# Altium footprint library PCB_Lib.PcbLib: 301 footprints (part 8 of 19)
Each footprint in its own frame and in the unit in brackets; x right, y up, seen from the top. Pads: shape width x height; smd on the part's side, far side on the other; paste and mask are expansions set on the pad; w line width, h text height; cw(c..) or ccw(c..) is an arc to the next point about the centre after c.
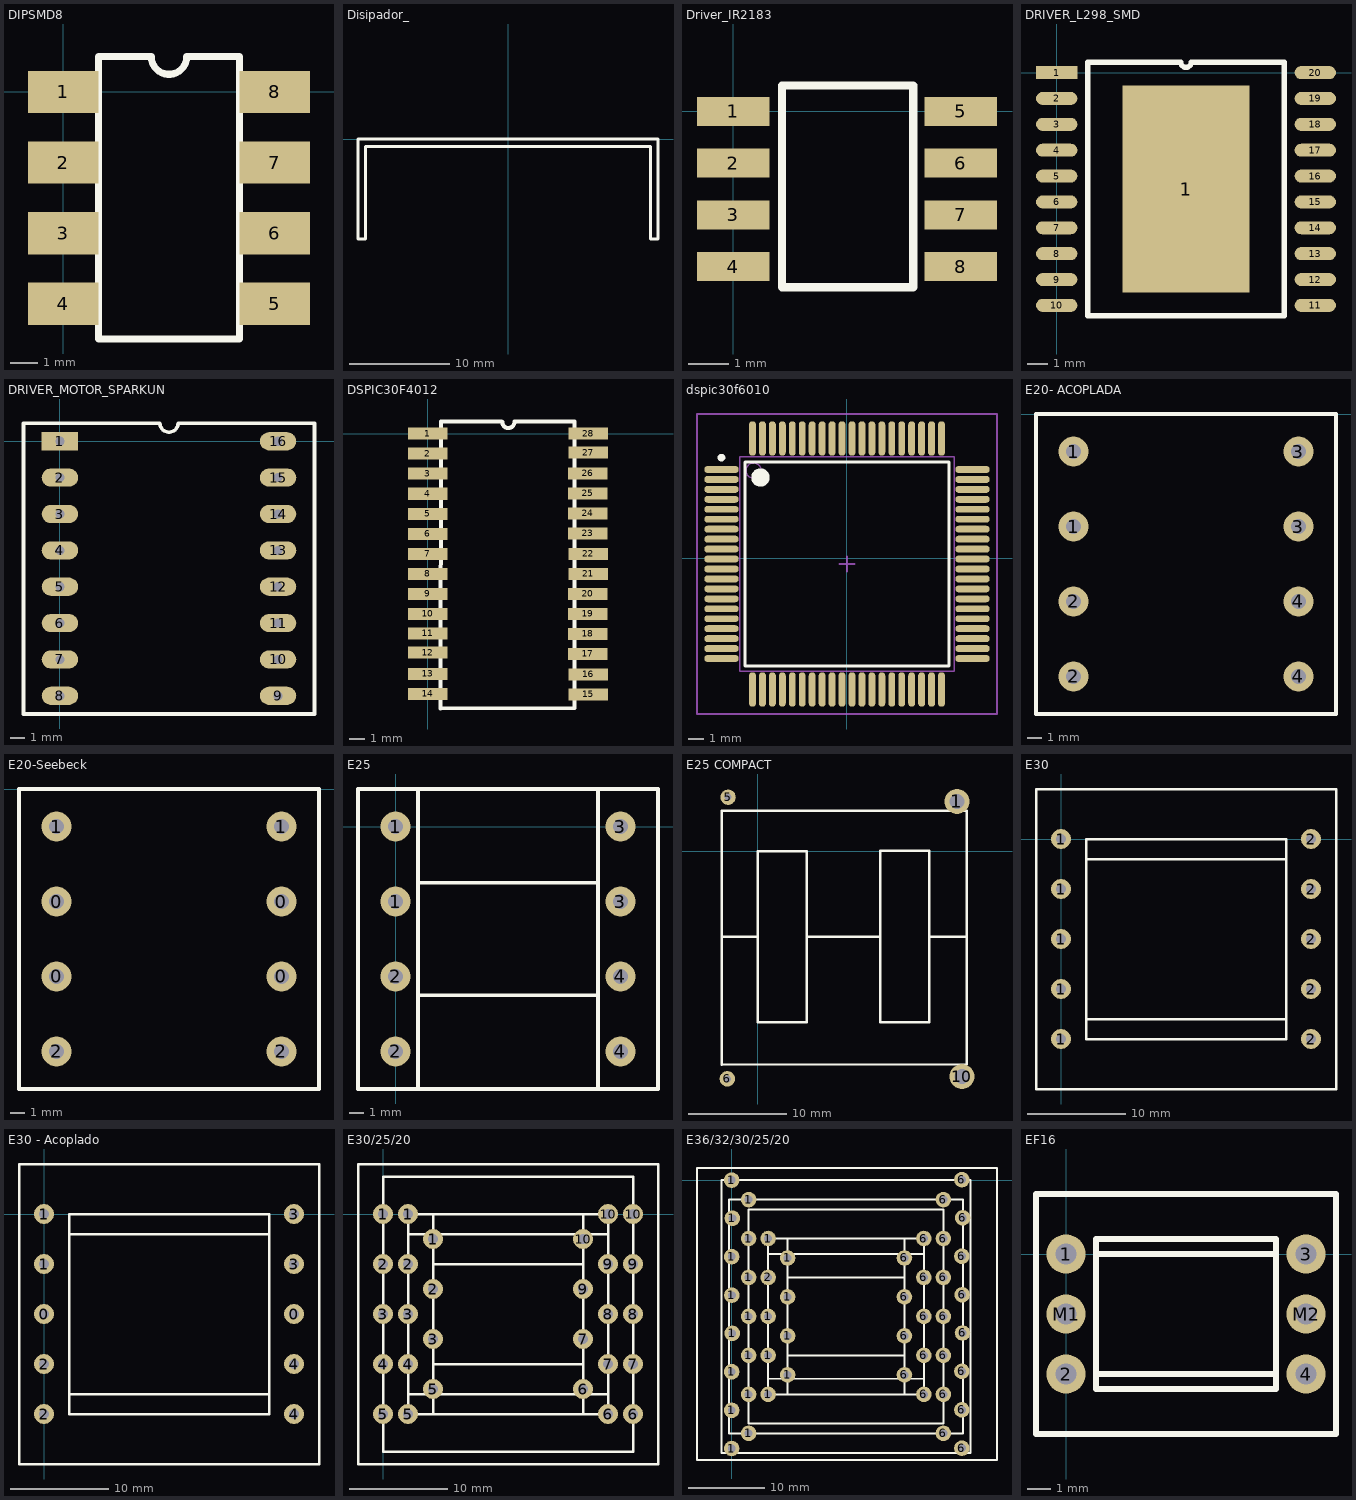
[diagram p7: the footprints below, top view; thin cyan lines are the x and y axes]

## DIPSMD8 [mil]
pads (8):
  rect 100x60 smd: 1(0,0) 2(0,-100) 3(0,-200) 4(0,-300) 5(300,-300) 6(300,-200) 7(300,-100) 8(300,0)
Top Overlay:
  lines w10: 50,-350 250,-350 250,50 175,50 cw(c150,50) 125,50 50,50 50,-350

## Disipador_ [mil]
Top Overlay:
  lines w10: -590.55,-393.7 -561.02,-393.7 -561.02,-354.33 -561.02,-29.53 561.02,-29.53 561.02,-393.7 590.55,-393.7 590.55,0 0,0 -590.55,0 -590.55,-393.7

## Driver_IR2183 [mil]
pads (8):
  rect 70x28 smd: 1(0,0) 2(0,-50) 3(0,-100) 4(0,-150) 5(220,0) 6(220,-50) 7(220,-100) 8(220,-150)
Top Overlay:
  lines w7.87: 47,-170 174,-170 174,25 47,25 47,-170

## DRIVER_L298_SMD [mil]
pads (21):
  rect 80x25 smd: 1(0,0)
  rect 245x400 smd: 1(250,-225)
  oval 80x25 smd: 2(0,-50) 3(0,-100) 4(0,-150) 5(0,-200) 6(0,-250) 7(0,-300) 8(0,-350) 9(0,-400) 10(0,-450) 11(500,-450) 12(500,-400) 13(500,-350) 14(500,-300) 15(500,-250) 16(500,-200) 17(500,-150) 18(500,-100) 19(500,-50) 20(500,0)
Top Overlay:
  lines w10: 60,-470 60,20 240,20 ccw(c250,20) 260,20 440,20 440,-470 60,-470

## DRIVER_MOTOR_SPARKUN [mil]
pads (16):
  rect 100x50 hole 25: 1(0,0)
  oval 100x50 hole 25: 2(0,-100) 3(0,-200) 4(0,-300) 5(0,-400) 6(0,-500) 7(0,-600) 8(0,-700) 9(600,-700) 10(600,-600) 11(600,-500) 12(600,-400) 13(600,-300) 14(600,-200) 15(600,-100) 16(600,0)
Top Overlay:
  lines w10: -100,-750 700,-750 700,50 325,50 cw(c300,50) 275,50 -100,50 -100,-750

## DSPIC30F4012 [mil]
pads (28):
  rect 98.43x30 smd: 1(0,0) 2(0,-50) 3(0,-100) 4(0,-150) 5(0,-200) 6(0,-250) 7(0,-300) 8(0,-350) 9(0,-400) 10(0,-450) 11(0,-499) 12(0,-547) 13(0,-600) 14(0,-650) 15(400,-651) 16(400,-601) 17(399,-550) 18(399,-500) 19(399,-450) 20(399,-400) 21(400,-350) 22(400,-300) 23(399,-249) 24(399,-199) 25(399,-149) 26(399,-99) 27(400,-47) 28(400,0)
Top Overlay:
  lines w10: 184,30 33,30 32,-686 366,-685 366,-479 366,-224 366,30 216,30 ; 186.02,29.79 ccw(c201,29) 216,29

## dspic30f6010 [mm] "pines 100mil longitud"
pads (80):
  oval 2.25x0.45 smd: 1(-8.2,5.794) 2(-8.2,5.144) 3(-8.2,4.494) 4(-8.2,3.844) 5(-8.2,3.194) 6(-8.2,2.544) 7(-8.2,1.894) 8(-8.2,1.244) 9(-8.2,0.594) 10(-8.2,-0.056) 11(-8.2,-0.706) 12(-8.2,-1.356) 13(-8.2,-2.006) 14(-8.2,-2.656) 15(-8.2,-3.306) 16(-8.2,-3.956) 17(-8.2,-4.606) 18(-8.2,-5.256) 19(-8.2,-5.906) 20(-8.2,-6.556) 41(8.2,-6.556) 42(8.2,-5.906) 43(8.2,-5.256) 44(8.2,-4.606) 45(8.2,-3.956) 46(8.2,-3.306) 47(8.2,-2.656) 48(8.2,-2.006) 49(8.2,-1.356) 50(8.2,-0.706) 51(8.2,-0.056) 52(8.2,0.594) 53(8.2,1.244) 54(8.2,1.894) 55(8.2,2.544) 56(8.2,3.194) 57(8.2,3.844) 58(8.2,4.494) 59(8.2,5.144) 60(8.2,5.794)
  oval 0.45x2.25 smd: 21(-6.175,-8.581) 22(-5.525,-8.581) 23(-4.875,-8.581) 24(-4.225,-8.581) 25(-3.575,-8.581) 26(-2.925,-8.581) 27(-2.275,-8.581) 28(-1.625,-8.581) 29(-0.975,-8.581) 30(-0.325,-8.581) 31(0.325,-8.581) 32(0.975,-8.581) 33(1.625,-8.581) 34(2.275,-8.581) 35(2.925,-8.581) 36(3.575,-8.581) 37(4.225,-8.581) 38(4.875,-8.581) 39(5.525,-8.581) 40(6.175,-8.581) 61(6.175,7.819) 62(5.525,7.819) 63(4.875,7.819) 64(4.225,7.819) 65(3.575,7.819) 66(2.925,7.819) 67(2.275,7.819) 68(1.625,7.819) 69(0.975,7.819) 70(0.325,7.819) 71(-0.325,7.819) 72(-0.975,7.819) 73(-1.625,7.819) 74(-2.275,7.819) 75(-2.925,7.819) 76(-3.575,7.819) 77(-4.225,7.819) 78(-4.875,7.819) 79(-5.525,7.819) 80(-6.175,7.819)
Top Overlay:
  circle w0.25: c-8.2,6.569 r0.125
  circle w0.6: c-5.65,5.269 r0.3
  lines w0.2: -6.65,-7.031 -6.65,6.269 6.65,6.269 6.65,-7.031 -6.65,-7.031
Mechanical 13:
  circle w0.1: c-6.1,5.719 r0.5
  lines w0.1: -7,-7.381 -7,6.619 7,6.619 7,-7.381 -7,-7.381
Mechanical 15:
  lines w0.1: -0.5,-0.381 0.5,-0.381 ; 0,-0.881 0,0.119 ; -9.8,-10.181 -9.8,9.419 9.8,9.419 9.8,-10.181 -9.8,-10.181
3D body: height 2.45, standoff 0, extent -7,-7.381 7,6.619

## E20- ACOPLADA [mil]
pads (8):
  round 80 hole 40: 1(200,-300) 1(200,-100) 2(200,-700) 2(200,-500) 3(800,-300) 3(800,-100) 4(800,-700) 4(800,-500)
Top Overlay:
  lines w10: 200,-800 800,-800 ; 200,0 800,0 ; 100,-800 900,-800 900,0 100,0 100,-800

## E20-Seebeck [mil]
pads (8):
  round 80 hole 40: 0(200,-500) 0(200,-300) 0(800,-500) 0(800,-300) 1(200,-100) 1(800,-100) 2(200,-700) 2(800,-700)
Top Overlay:
  lines w10: 200,-800 800,-800 ; 200,0 800,0 ; 100,-800 100,0 900,0 900,-800 100,-800

## E25 [mil]
pads (8):
  round 80 hole 40: 1(0,-200) 1(0,0) 2(0,-600) 2(0,-400) 3(600,-200) 3(600,0) 4(600,-600) 4(600,-400)
Top Overlay:
  lines w10: 60,-700 60,100 ; 60,-450 540,-450 ; 60,-150 540,-150 ; 540,-700 540,100 ; -100,-700 700,-700 700,100 -100,100 -100,-700

## E25 COMPACT [mil]
pads (4):
  round 100 hole 60: 1(800,200) 10(820,-906)
  round 62 hole 28: 5(-120,217) 6(-123,-915)
Top Overlay:
  lines w10: -145,-343 -145,162 840,162 840,-343 ; -145,-343 0,-343 ; -145,-343 -145,-858 840,-857 840,-343 ; 0,-343 0,0 197,0 197,-344 ; 0,-343 0,-687 197,-687 197,-344 ; 197,-344 492,-344 ; 492,-344 492,1 689,1 689,-343 ; 492,-344 492,-688 689,-688 689,-343 ; 689,-343 840,-343

## E30 [mil]
pads (10):
  round 80 hole 40: 1(0,-800) 1(0,-600) 1(0,-400) 1(0,-200) 1(0,0) 2(1000,-800) 2(1000,-600) 2(1000,-400) 2(1000,-200) 2(1000,0)
Top Overlay:
  lines w10: 100,-720 900,-720 ; 100,-80 900,-80 ; -100,-1000 1100,-1000 1100,200 -100,200 -100,-1000 ; 100,-800 900,-800 900,0 100,0 100,-800

## E30 - Acoplado [mil]
pads (10):
  round 80 hole 40: 0(0,-400) 0(1000,-400) 1(0,-200) 1(0,0) 2(0,-800) 2(0,-600) 3(1000,-200) 3(1000,0) 4(1000,-800) 4(1000,-600)
Top Overlay:
  lines w10: 100,-720 900,-720 ; 100,-80 900,-80 ; -100,-1000 1100,-1000 1100,200 -100,200 -100,-1000 ; 100,-800 900,-800 900,0 100,0 100,-800

## E30/25/20 [mil]
pads (28):
  round 80 hole 40: 1(0,0) 1(100,0) 1(200,-100) 2(0,-200) 2(100,-200) 2(200,-300) 3(0,-400) 3(100,-400) 3(200,-500) 4(0,-600) 4(100,-600) 5(0,-800) 5(100,-800) 5(200,-700) 6(800,-700) 6(900,-800) 6(1000,-800) 7(800,-500) 7(900,-600) 7(1000,-600) 8(900,-400) 8(1000,-400) 9(800,-300) 9(900,-200) 9(1000,-200) 10(800,-100) 10(900,0) 10(1000,0)
Top Overlay:
  lines w10: 100,-720 900,-720 ; 100,-80 900,-80 ; 200,-600 800,-600 ; 200,-200 800,-200 ; -100,-1000 1100,-1000 1100,200 -100,200 -100,-1000 ; 0,-950 1000,-950 1000,150 0,150 0,-950 ; 100,-800 900,-800 900,0 100,0 100,-800 ; 200,-800 200,0 800,0 800,-800 200,-800

## E36/32/30/25/20 [mil]
pads (48):
  round 80 hole 40: 1(0,-1378) 1(0,-1182) 1(0,-984) 1(0,-393) 1(0,0) 1(1,-591) 1(3,-787) 1(4,-196) 1(87,-1300) 1(87,-1100) 1(87,-900) 1(87,-700) 1(87,-500) 1(87,-300) 1(87,-100) 1(187,-1100) 1(187,-900) 1(187,-700) 1(187,-300) 1(287,-1000) 1(287,-800) 1(287,-600) 1(287,-400) 2(187,-500) 6(887,-1000) 6(887,-800) 6(887,-600) 6(887,-400) 6(987,-1100) 6(987,-900) 6(987,-700) 6(987,-500) 6(987,-300) 6(1087,-1300) 6(1087,-1100) 6(1087,-900) 6(1087,-700) 6(1087,-500) 6(1087,-300) 6(1087,-100) 6(1182,-1376) 6(1182,-1180) 6(1182,-982) 6(1182,-391) 6(1182,2) 6(1183,-589) 6(1185,-785) 6(1186,-194)
Top Overlay:
  lines w10: 187,-1020 987,-1020 ; 187,-380 987,-380 ; 287,-900 887,-900 ; 287,-500 887,-500 ; -178,-1438 1362,-1438 1362,63 -178,63 -178,-1438 ; -53,-1400 1227,-1400 1227,0 -53,0 -53,-1400 ; -13,-1300 -13,-100 1187,-100 1187,-1300 -13,-1300 ; 87,-1250 87,-150 1087,-150 1087,-1250 87,-1250 ; 187,-1100 187,-300 987,-300 987,-1100 187,-1100 ; 287,-1100 887,-1100 887,-300 287,-300 287,-1100

## EF16 [mil]
pads (6):
  round 65 hole 35: 1(0,0) 2(0,-200) 3(400,0) 4(400,-200) M1(0,-100) M2(400,-100)
Top Overlay:
  lines w10: 50,-200 350,-200 ; 50,0 350,0 ; -50,-300 450,-300 450,100 -50,100 -50,-300 ; 50,-225 50,25 350,25 350,-225 50,-225